# EAGLE library part AS621 (library AS621x)
The AS621xICfamilyis a high accuracy temperature sensor system that communicates via a 2-wire digital bus with other devices. It consists of a Si bandgap temperature sensor, an ADC and a digital signal processor.
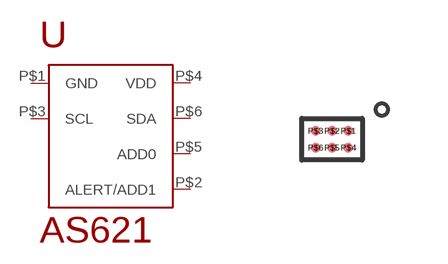
[diagram p0: symbol with the pads of AS6212; footprint AS6212]

Designator prefix U

## AS6212  [AS6212]
P$1  GND  pwr
P$2  ALERT/ADD1
P$3  SCL
P$4  VDD  pwr
P$5  ADD0
P$6  SDA

## Footprint AS6212 (pad centres in mm)
smd 0.25 x 0.25: P$1 0.41,0.21; P$2 0,0.21; P$3 -0.41,0.21; P$4 0.41,-0.21; P$5 0,-0.21; P$6 -0.41,-0.21